# Altium schematic symbol library 2020-01-08_04-12-28.SchLib: 2 symbols
Pins are listed as number, name and electrical type; pins without a type are passive.

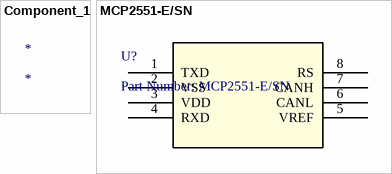
[diagram p0: symbols Component_1 to MCP2551-E/SN]

## Component_1
designator *

## MCP2551-E/SN
designator U?, comment Part Number: MCP2551-E/SN
No Description Available; Vendor: Microchip; Built_By: EMA_Jessica; Manufacturer_Part_Number: MCP2551-E/SN; Copyright: Copyright (C) 2018 Accelerated Designs. All rights reserved; RefDes: RefDes; Type: DEV; Value: Value
footprint SOIC8-N_MC
pins: 1 TXD, 2 VSS, 3 VDD, 4 RXD, 5 VREF, 6 CANL, 7 CANH, 8 RS